# EAGLE library part LM2596S-12 (library farnell-parts)
Voltage Regulator
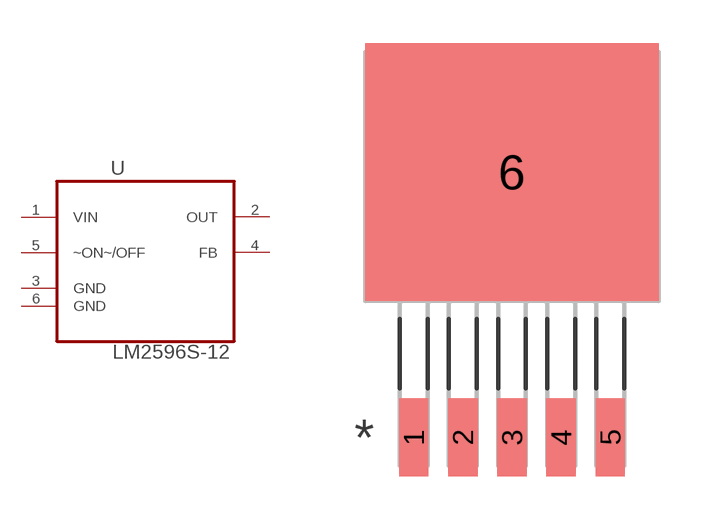
[diagram p2: symbol with the pads of TO170P1435X465-6N; footprint TO170P1435X465-6N]

Designator prefix U

## LM2596S-12 (MPN: LM2596S-12; OC_FARNELL: 9494359; OC_NEWARK: 41K3843; PACKAGE: TO-263-5; SUPPLIER: National), LM2596S-12ADJ (MPN: LM2596DSADJG; OC_FARNELL: 2534162; PACKAGE: TO-263-5)  [TO170P1435X465-6N]
1  VIN  in
2  OUT  out
3  GND  pas
4  FB
5  ~ON~/OFF  pas
6  GND  pas

## Footprint TO170P1435X465-6N (pad centres in mm)
smd 1.016 x 2.692: 1 -3.404,-9.042; 2 -1.702,-9.042; 3 0,-9.042; 4 1.702,-9.042; 5 3.404,-9.042
smd 10.16 x 8.941: 6 0,0.152